# EAGLE library part LCD7SEG4_11_C3 (library akita)
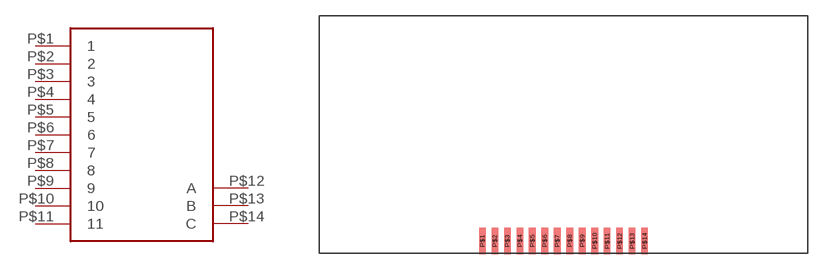
[diagram p44: symbol with the pads of LCD7SEG4_14_1.2MM; footprint LCD7SEG4_14_1.2MM]

Designator prefix -

## LCD7SEG4_11_C3  [LCD7SEG4_14_1.2MM]
P$1  1
P$2  2
P$3  3
P$4  4
P$5  5
P$6  6
P$7  7
P$8  8
P$9  9
P$10  10
P$11  11
P$12  A
P$13  B
P$14  C

## Footprint LCD7SEG4_14_1.2MM (pad centres in mm)
smd 0.635 x 2.54: P$1 -7.8,1.2; P$2 -6.6,1.2; P$3 -5.4,1.2; P$4 -4.2,1.2; P$5 -3,1.2; P$6 -1.8,1.2; P$7 -0.6,1.2; P$8 0.6,1.2; P$9 1.8,1.2; P$10 3,1.2; P$11 4.2,1.2; P$12 5.4,1.2; P$13 6.6,1.2; P$14 7.8,1.2